# EAGLE library part FT234XD (library PP_DigitalIC)
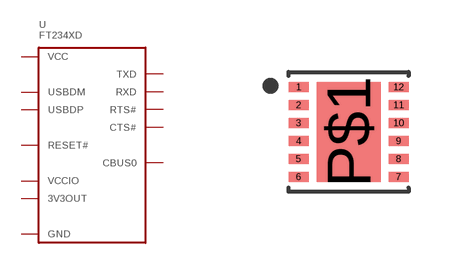
[diagram p29: symbol with the pads of FT234X_DFN-12; footprint FT234X_DFN-12]

Designator prefix U

## FT234XD  [FT234X_DFN-12]
1  USBDM
2  RESET#
3  3V3OUT
4  VCC
5  GND
6  CBUS0
7  TXD
8  RTS#
9  VCCIO
10  RXD
11  CTS#
12  USBDP
P$1  GND

## Footprint FT234X_DFN-12 (pad centres in mm)
smd 0.5 x 0.25: 1 -1.25,1.125; 2 -1.25,0.675; 3 -1.25,0.225; 4 -1.25,-0.225; 5 -1.25,-0.675; 6 -1.25,-1.125; 7 1.25,-1.125; 8 1.25,-0.675; 9 1.25,-0.225; 10 1.25,0.225; 11 1.25,0.675; 12 1.25,1.125
smd 1.6 x 2.5: P$1 0,0